# EAGLE library part XC9536_44PLCC (library xilinx-xc9)
xc9536_pc44 XC9500 In-System Programmable CPLD Family Auto generated by make-symbol-device-package-bsdl.ulp Rev. 34 Source: xc9536_pc44.bsd
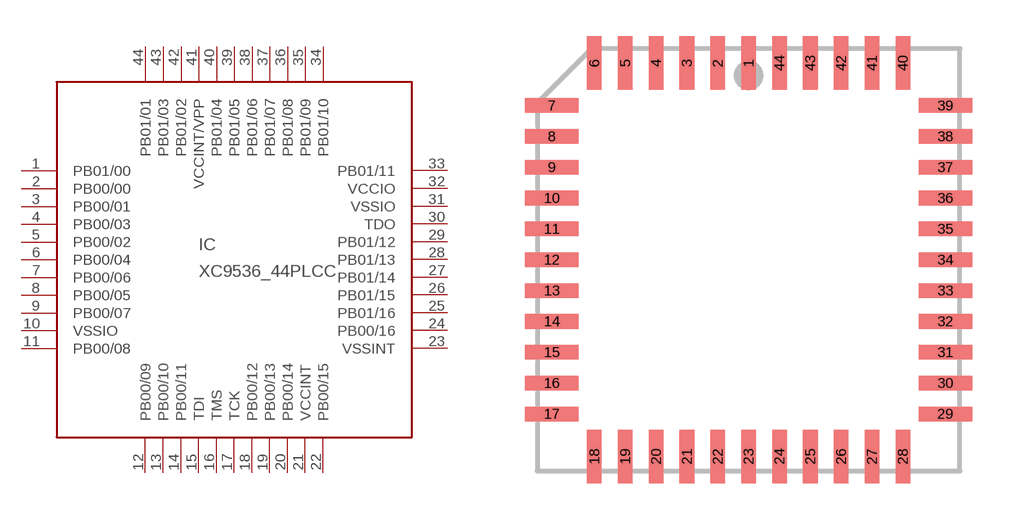
[diagram p0: symbol with the pads of PLCC44; footprint PLCC44]

Designator prefix IC

## XC9536_44PLCC (MPN: XC9536-15PCG44C; OC_FARNELL: 1193226; OC_NEWARK: 98K3376)  [PLCC44]
1  PB01/00
2  PB00/00
3  PB00/01
4  PB00/03
5  PB00/02
6  PB00/04
7  PB00/06
8  PB00/05
9  PB00/07
10  VSSIO  pwr
11  PB00/08
12  PB00/09
13  PB00/10
14  PB00/11
15  TDI  in
16  TMS  in
17  TCK  in
18  PB00/12
19  PB00/13
20  PB00/14
21  VCCINT  pwr
22  PB00/15
23  VSSINT  pwr
24  PB00/16
25  PB01/16
26  PB01/15
27  PB01/14
28  PB01/13
29  PB01/12
30  TDO  out
31  VSSIO  pwr
32  VCCIO  pwr
33  PB01/11
34  PB01/10
35  PB01/09
36  PB01/08
37  PB01/07
38  PB01/06
39  PB01/05
40  PB01/04
41  VCCINT/VPP  in
42  PB01/02
43  PB01/03
44  PB01/01

## Footprint PLCC44 (pad centres in mm)
PLASTIC LEADED CHIP CARRIER square
smd 0.6 x 2.2: 1 0,8.1; 2 -1.27,8.1; 3 -2.54,8.1; 4 -3.81,8.1; 5 -5.08,8.1; 6 -6.35,8.1; 18 -6.35,-8.1; 19 -5.08,-8.1; 20 -3.81,-8.1; 21 -2.54,-8.1; 22 -1.27,-8.1; 23 0,-8.1; 24 1.27,-8.1; 25 2.54,-8.1; 26 3.81,-8.1; 27 5.08,-8.1; 28 6.35,-8.1; 40 6.35,8.1; 41 5.08,8.1; 42 3.81,8.1; 43 2.54,8.1; 44 1.27,8.1
smd 2.2 x 0.6: 7 -8.1,6.35; 8 -8.1,5.08; 9 -8.1,3.81; 10 -8.1,2.54; 11 -8.1,1.27; 12 -8.1,0; 13 -8.1,-1.27; 14 -8.1,-2.54; 15 -8.1,-3.81; 16 -8.1,-5.08; 17 -8.1,-6.35; 29 8.1,-6.35; 30 8.1,-5.08; 31 8.1,-3.81; 32 8.1,-2.54; 33 8.1,-1.27; 34 8.1,0; 35 8.1,1.27; 36 8.1,2.54; 37 8.1,3.81; 38 8.1,5.08; 39 8.1,6.35